# EAGLE library part DSPIC33FJ12MC201-I/P (library Microchip_By_element14_Batch_1)
DSC, MOTOR CTRL
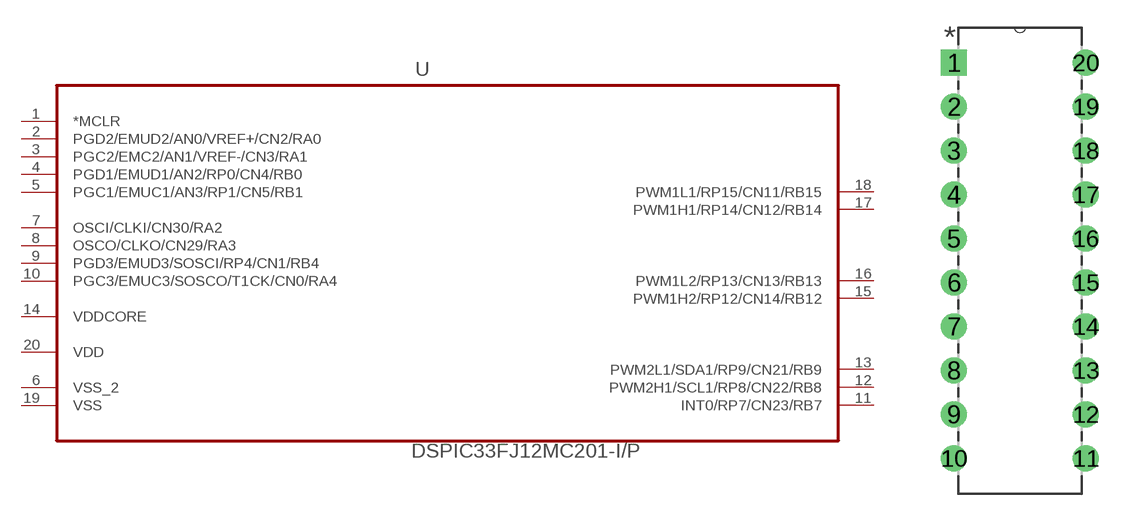
[diagram p372: symbol with the pads of DIP254P762X533-20; footprint DIP254P762X533-20]

Designator prefix U

## DSPIC33FJ12MC201-I/P (MPN: DSPIC33FJ12MC201-I/P; OC_FARNELL: 1439607; OC_NEWARK: 26M9198; PACKAGE: DIP-20; SUPPLIER: Microchip)  [DIP254P762X533-20]
1  *MCLR  in
2  PGD2/EMUD2/AN0/VREF+/CN2/RA0
3  PGC2/EMC2/AN1/VREF-/CN3/RA1
4  PGD1/EMUD1/AN2/RP0/CN4/RB0
5  PGC1/EMUC1/AN3/RP1/CN5/RB1
6  VSS_2  pas
7  OSCI/CLKI/CN30/RA2
8  OSCO/CLKO/CN29/RA3
9  PGD3/EMUD3/SOSCI/RP4/CN1/RB4
10  PGC3/EMUC3/SOSCO/T1CK/CN0/RA4
11  INT0/RP7/CN23/RB7
12  PWM2H1/SCL1/RP8/CN22/RB8
13  PWM2L1/SDA1/RP9/CN21/RB9
14  VDDCORE  pwr
15  PWM1H2/RP12/CN14/RB12
16  PWM1L2/RP13/CN13/RB13
17  PWM1H1/RP14/CN12/RB14
18  PWM1L1/RP15/CN11/RB15
19  VSS  pas
20  VDD  pwr

## Footprint DIP254P762X533-20 (pad centres in mm)
drill 0.991 square: 1 -7.62,22.86
drill 0.991: 2 -7.62,20.32; 3 -7.62,17.78; 4 -7.62,15.24; 5 -7.62,12.7; 6 -7.62,10.16; 7 -7.62,7.62; 8 -7.62,5.08; 9 -7.62,2.54; 10 -7.62,0; 11 0,0; 12 0,2.54; 13 0,5.08; 14 0,7.62; 15 0,10.16; 16 0,12.7; 17 0,15.24; 18 0,17.78; 19 0,20.32; 20 0,22.86